# Altium footprint library PCB1.PcbLib: 9 footprints
Each footprint in its own frame and in the unit in brackets; x right, y up, seen from the top. Pads: shape width x height; smd on the part's side, far side on the other; paste and mask are expansions set on the pad; w line width, h text height; cw(c..) or ccw(c..) is an arc to the next point about the centre after c.
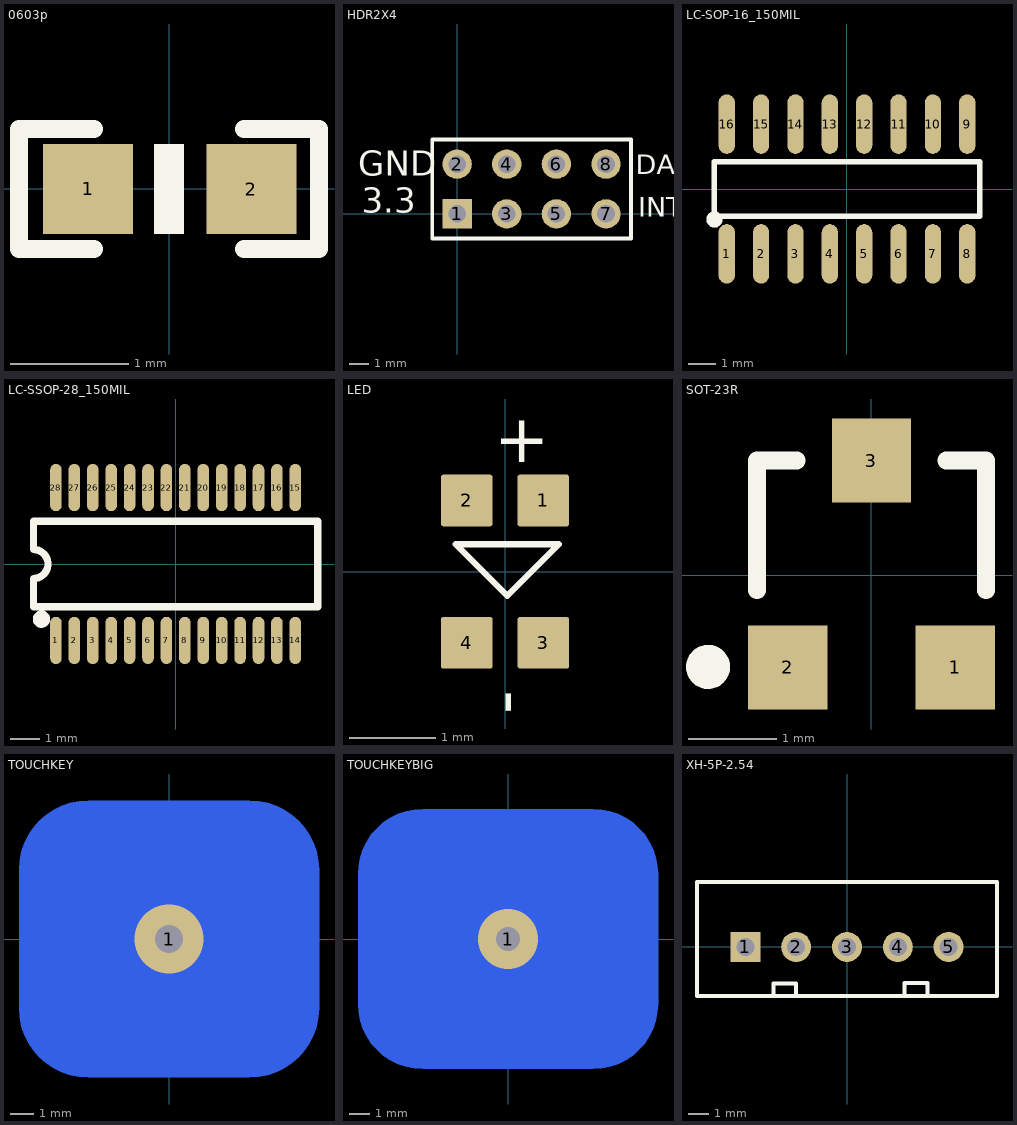
[diagram p0: the footprints below, top view; thin cyan lines are the x and y axes]

## 0603p [mil]
pads (2):
  rect 30x30 smd: 1(-27,0) 2(27.5,-0.06)
Top Overlay:
  region: 5.02,-15.06 5.02,14.94 -4.98,14.94 -4.98,-15.06
  lines w6: -25,-20.06 -50,-20.06 -50,19.94 -25,19.94 ; 25,-20.06 50,-20.06 50,19.94 25,19.94

## HDR2X4 [mm]
pads (8):
  rect 1.5x1.5 hole 0.9: 1(0,0)
  round 1.5 hole 0.9: 2(0,2.54) 3(2.54,0) 4(2.54,2.54) 5(5.08,0) 6(5.08,2.54) 7(7.62,0) 8(7.62,2.54)
Top Overlay:
  lines w0.2: -1.27,-1.27 8.89,-1.27 8.89,3.81 -1.27,3.81 -1.27,-1.27
  text "GND" at -5.072,1.961 h1.27
  text "3.3" at -4.868,0.056 h1.27
  text "INT/SDA/SCL" at 9.279,-0.148 h1
  text "DAT/ST/CLK" at 9.144,2.032 h1

## LC-SOP-16_150MIL [mm]
pads (16):
  oval 0.6x2.2 smd: 1(-4.445,-2.4) 2(-3.175,-2.4) 3(-1.905,-2.4) 4(-0.635,-2.4) 5(0.635,-2.4) 6(1.905,-2.4) 7(3.175,-2.4) 8(4.445,-2.4) 9(4.445,2.4) 10(3.175,2.4) 11(1.905,2.4) 12(0.635,2.4) 13(-0.635,2.4) 14(-1.905,2.4) 15(-3.175,2.4) 16(-4.445,2.4)
Top Overlay:
  circle w0.3: c-4.9,-1.125 r0.15
  lines w0.2: -4.9,-1 4.9,-1 4.9,1 -4.9,1 -4.9,-1

## LC-SSOP-28_150MIL [mm]
pads (28):
  oval 0.4x1.63 smd mask+0.051: 1(-4.127,-2.635) 2(-3.492,-2.635) 3(-2.857,-2.635) 4(-2.222,-2.635) 5(-1.587,-2.635) 6(-0.952,-2.635) 7(-0.317,-2.635) 8(0.318,-2.635) 9(0.953,-2.635) 10(1.588,-2.635) 11(2.223,-2.635) 12(2.858,-2.635) 13(3.493,-2.635) 14(4.128,-2.635) 15(4.128,2.635) 16(3.493,2.635) 17(2.858,2.635) 18(2.223,2.635) 19(1.588,2.635) 20(0.953,2.635) 21(0.318,2.635) 22(-0.317,2.635) 23(-0.952,2.635) 24(-1.587,2.635) 25(-2.222,2.635) 26(-2.857,2.635) 27(-3.492,2.635) 28(-4.127,2.635)
Top Overlay:
  circle w0.3: c-4.625,-1.9 r0.15
  lines w0.254: -4.9,-1.48 -4.9,-0.5 ccw(c-4.9,0) -4.9,0.5 -4.9,1.48 4.9,1.48 4.9,-1.48 -4.9,-1.48

## LED [mm]
pads (4):
  rrect10% 0.6x0.6 smd: 1(0.445,0.826) 2(-0.445,0.826) 3(0.445,-0.826) 4(-0.445,-0.826)
Top Overlay:
  lines w0.076: -0.572,0.318 0.025,-0.279 0.622,0.318 -0.572,0.318
  text "-" at 0.254,-1.651 h0.56
  text "+" at -0.127,1.27 h0.56

## SOT-23R [mm]
pads (3):
  rect 0.9x0.95 smd: 1(0.95,-1.048) 2(-0.95,-1.048) 3(0,1.302)
Top Overlay:
  circle w0.25: c-1.856,-1.041 r0.125
  lines w0.2: -1.3,-0.173 -1.3,1.302 -0.85,1.302 ; 0.85,1.302 1.3,1.302 1.3,-0.173

## TOUCHKEY [mm]
pads (1):
  rrect50% 13x12 smd far side: 1(0,0)
via 0,0 diameter 3 hole 1.2

## TOUCHKEYBIG [mm]
pads (1):
  rrect50% 15x13 smd far side: 1(0,0)
via 0,0 diameter 3 hole 1.2

## XH-5P-2.54 [mm]
pads (5):
  rect 1.5x1.5 hole 0.9: 1(-5.08,0)
  round 1.5 hole 0.9: 2(-2.54,0) 3(0,0) 4(2.54,0) 5(5.08,0)
Top Overlay:
  lines w0.2: -3.683,-2.438 -3.683,-1.829 -2.54,-1.829 -2.54,-2.438 ; 2.87,-2.413 2.87,-1.803 4.013,-1.803 4.013,-2.413 ; -7.5,-2.45 -7.5,3.24 7.5,3.24 7.5,-2.45 -7.5,-2.45